# EAGLE library part M03X2 (library AIC_Custom)
2x3 .1" header. Top & Bottom Mounting Versions
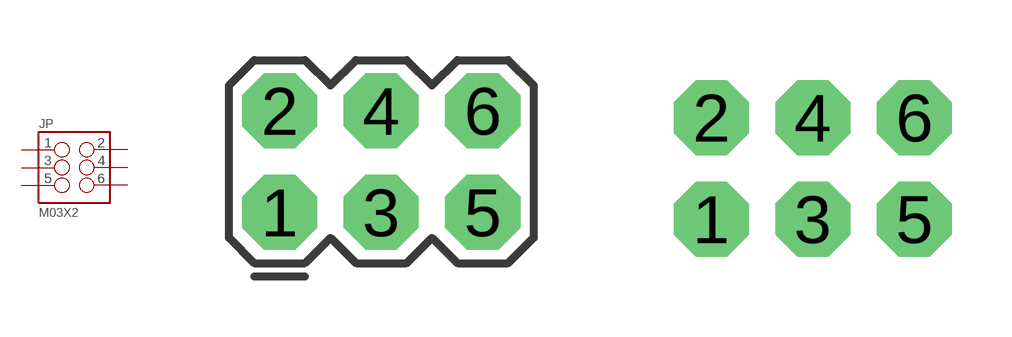
[diagram p20: symbol with the pads of 2X3_TOP; footprints 2X3_TOP, 2X3_BOTTOM]

Designator prefix JP

## M03X2TOP  [2X3_TOP]
1  1
2  2
3  3
4  4
5  5
6  6

## M03X2BOTTOM  [2X3_BOTTOM]
Pads as for 2X3_TOP

## Footprint 2X3_TOP (pad centres in mm)
Header 2x3 with pin1 marked, top mounting
drill 1.016 pad 1.88 octagon: 1 0,0; 2 0,2.54; 3 2.54,0; 4 2.54,2.54; 5 5.08,0; 6 5.08,2.54

## Footprint 2X3_BOTTOM (pad centres in mm)
Header 2x3 with pin 1 marked, bottom mounting
drill 1.016 pad 1.88 octagon: 1 0,0; 2 0,2.54; 3 2.54,0; 4 2.54,2.54; 5 5.08,0; 6 5.08,2.54